# EAGLE library part ADUM1100 (library digital)
ADuM1100: Digital isolator (Analog Devices) 5V, 25Mbps data rate, 18ns delay
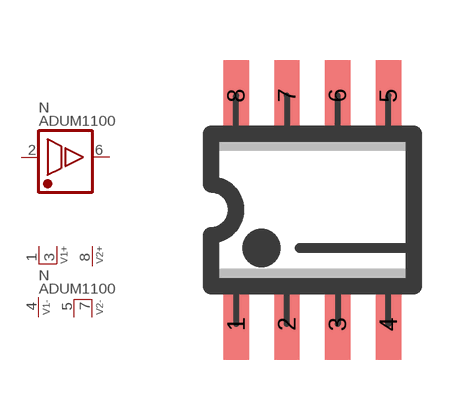
[diagram p40: symbol with the pads of SO08; footprint SO08]

Designator prefix N; gates  =ISO1 P=V2+-+2-

## ADUM1100  [SO08]
1  P:V1+  pwr
2   :IN  in
3  P:V1+  pwr
4  P:V1-  pwr
5  P:V2-  pwr
6   :OUT  out
7  P:V2-  pwr
8  P:V2+  pwr

## ADUM1100S  [SO08]
Pads as for SO08

## Footprint SO08 (pad centres in mm)
SO-8, SMD SOIC IC package, 8 pins
smd 0.635 x 1.778: 1 -1.905,-2.857; 2 -0.635,-2.857; 3 0.635,-2.857; 4 1.905,-2.857; 5 1.905,2.857; 6 0.635,2.857; 7 -0.635,2.857; 8 -1.905,2.857